# EAGLE library part LT8391 (library CostumHafiz)
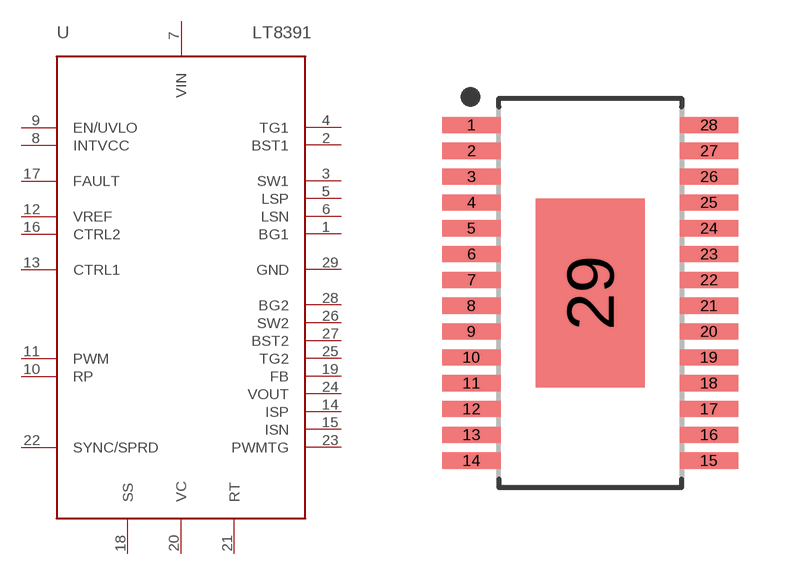
[diagram p3: symbol with the pads of SOP65P665X120-29T274X475; footprint SOP65P665X120-29T274X475]

Designator prefix -

## LT8391  [SOP65P665X120-29T274X475]
1  BG1
2  BST1
3  SW1
4  TG1
5  LSP
6  LSN
7  VIN
8  INTVCC
9  EN/UVLO
10  RP
11  PWM
12  VREF
13  CTRL1
14  ISP
15  ISN
16  CTRL2
17  FAULT
18  SS
19  FB
20  VC
21  RT
22  SYNC/SPRD
23  PWMTG
24  VOUT
25  TG2
26  SW2
27  BST2
28  BG2
29  GND

## Footprint SOP65P665X120-29T274X475 (pad centres in mm)
28-SOP, 0.65 mm pitch, 6.65 mm span, 9.70 X 4.50 X 1.20 mm body, 4.75 X 2.74 mm thermal pad 28-pin SOP package with 0.65 mm pitch, 6.65 mm span with body size 9.70 X 4.50 X 1.20 mm and thermal pad size 4.75 X 2.74 mm
smd 1.475 x 0.408: 1 -2.987,4.225; 2 -2.987,3.575; 3 -2.987,2.925; 4 -2.987,2.275; 5 -2.987,1.625; 6 -2.987,0.975; 7 -2.987,0.325; 8 -2.987,-0.325; 9 -2.987,-0.975; 10 -2.987,-1.625; 11 -2.987,-2.275; 12 -2.987,-2.925; 13 -2.987,-3.575; 14 -2.987,-4.225; 15 2.987,-4.225; 16 2.987,-3.575; 17 2.987,-2.925; 18 2.987,-2.275; 19 2.987,-1.625; 20 2.987,-0.975; 21 2.987,-0.325; 22 2.987,0.325; 23 2.987,0.975; 24 2.987,1.625; 25 2.987,2.275; 26 2.987,2.925; 27 2.987,3.575; 28 2.987,4.225
smd 2.74 x 4.75: 29 0,0